# Altium schematic symbol library 晶体管.SCHLIB: 14 symbols
Pins are listed as number, name and electrical type; pins without a type are passive.

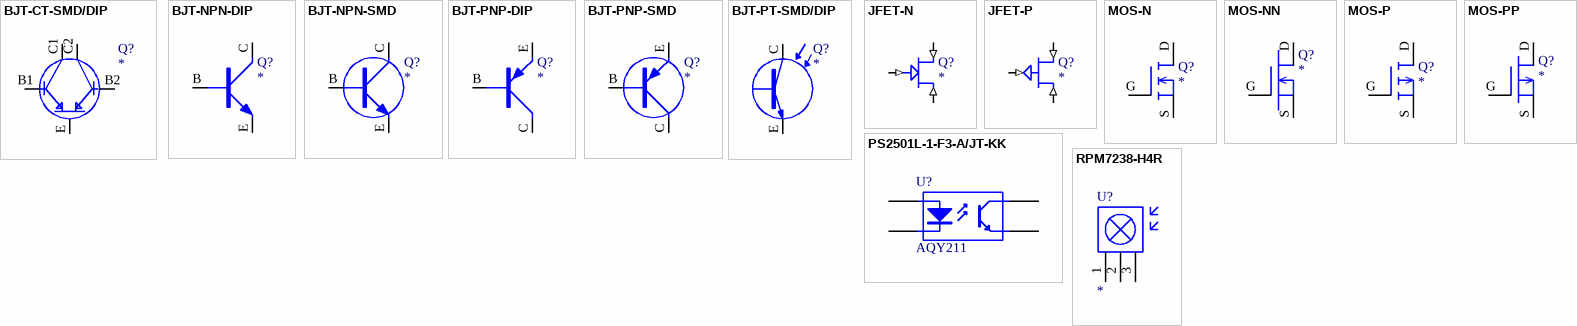
[diagram p0: symbols BJT-CT-SMD/DIP to RPM7238-H4R]

## BJT-CT-SMD/DIP
designator Q?
pins: B1, B2, C1, C2, E

## BJT-NPN-DIP
designator Q?
pins: B 1, C 3, E 2

## BJT-NPN-SMD
designator Q?
pins: B 1, C 3, E 2

## BJT-PNP-DIP
designator Q?
pins: B 1, C 3, E 2

## BJT-PNP-SMD
designator Q?
pins: B 1, C 3, E 2

## BJT-PT-SMD/DIP
designator Q?
pins: C 3, E 2

## JFET-N
designator Q?
pins: 1 G (in), 2 D (in), 3 S (in)

## JFET-P
designator Q?
pins: D 3 (in), G 1 (in), S 2 (in)

## MOS-N
designator Q?
pins: D, G, S

## MOS-NN
designator Q?
pins: D, G, S

## MOS-P
designator Q?
pins: D, G, S

## MOS-PP
designator Q?
pins: D, G, S

## PS2501L-1-F3-A/JT-KK
designator U?, comment AQY211
pins: 1 A, 2 K, 3 E, 4 C

## RPM7238-H4R
designator U?
pins: 1, 2, 3